# Altium schematic symbol library connectors.SchLib: 47 symbols
Pins are listed as number, name and electrical type; pins without a type are passive.

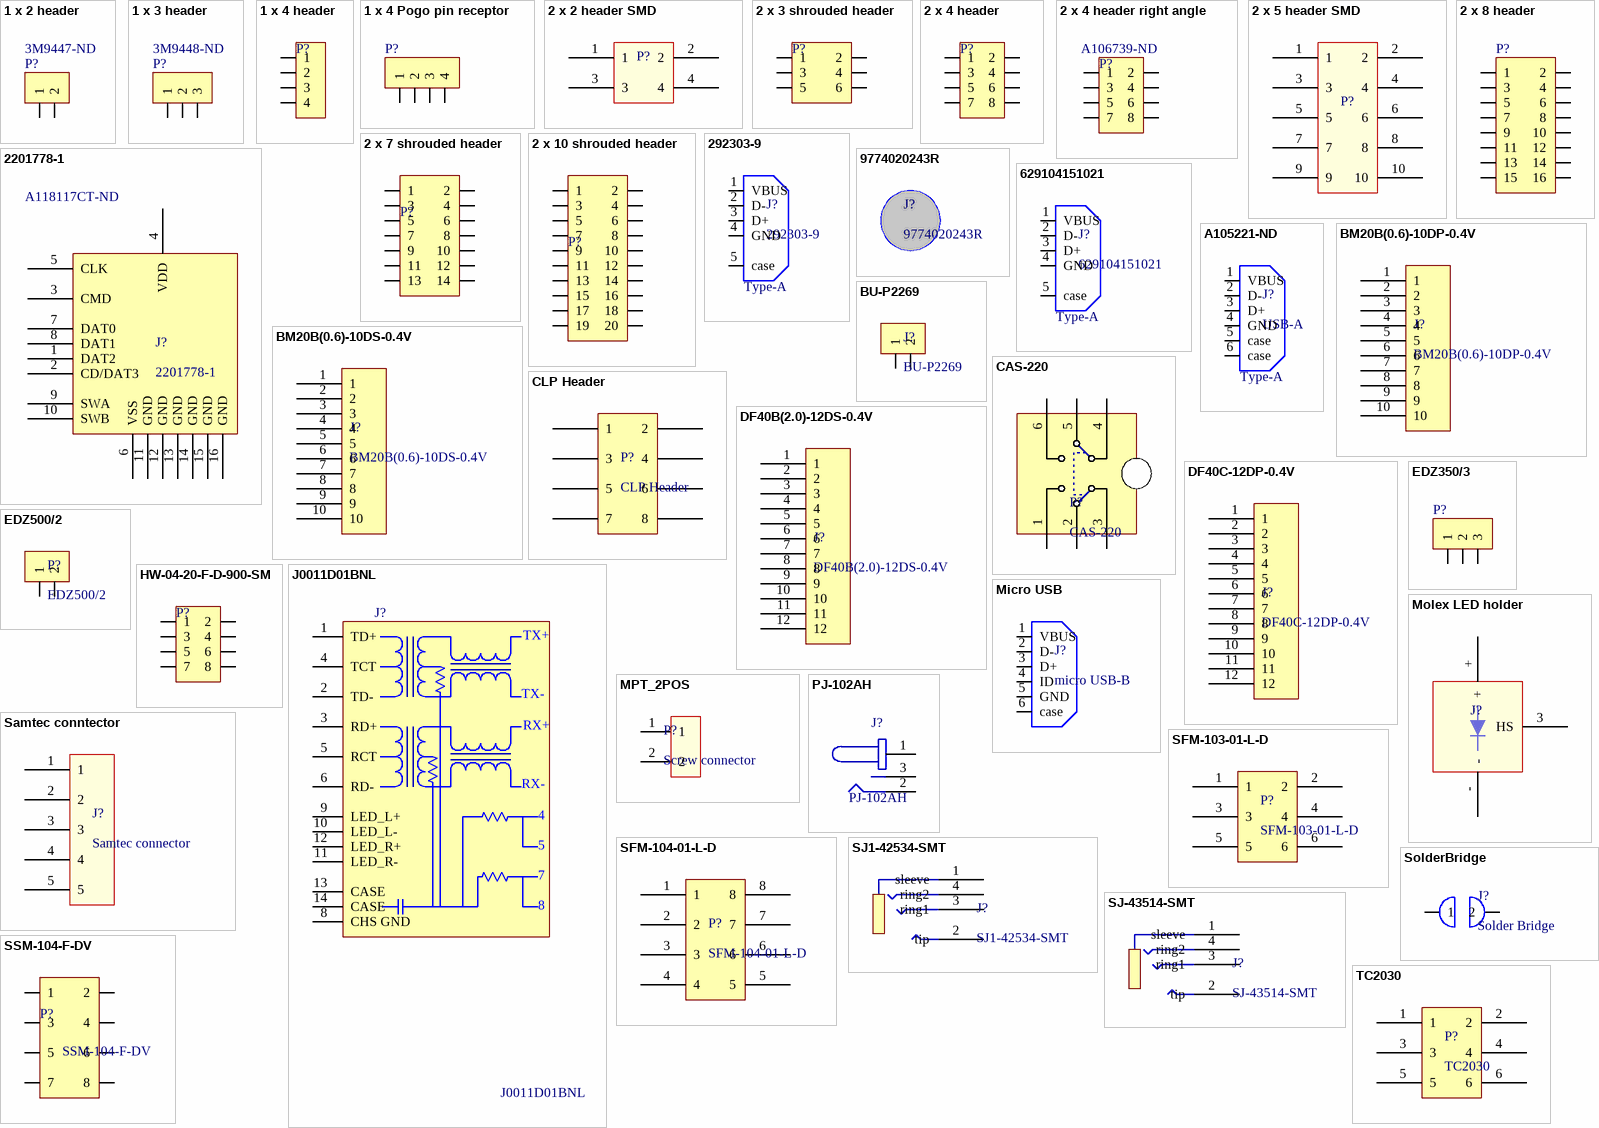
[diagram p0: symbols 1 x 2 header to TC2030]

## 1 x 2 header
designator P?  Supplier Part Number 1: 3M9447-ND  (hidden comment: 1 x 2 header)
100 mils standard header; Supplier 1: Digi-Key
footprint 1x2 header (1x2 header, 100 mils)
pins: 1, 2

## 1 x 3 header
designator P?  Supplier Part Number 1: 3M9448-ND  (hidden comment: 1 x 3 header)
100 mils standard header; Supplier 1: Digi-Key
footprint 1x3 header (1x3 header, 100 mils)
pins: 1, 2, 3

## 1 x 4 header
designator P?  (value not drawn)
100 mils standard header; Supplier 1: Digi-Key; Supplier Part Number 1: 3M9449-ND
footprint 1x4 header (x4 header, 100 mils)
pins: 1, 2, 3, 4 (power)

## 1 x 4 Pogo pin receptor
designator P?  (value not drawn)
Supplier 1: Digi-Key; Supplier Part Number 1: ED1162-ND
footprint 854-22-004-10-001101 (Spring loaded connector)
pins: 1, 2, 3, 4

## 2 x 2 header SMD
designator P?  (value not drawn)
2x2 100 mil header SMD; Supplier 1: Digi-Key; Supplier Part Number 1: 609-4463-6-ND
footprint 2x2 header SMD (100 mils header, SMD)
pins: 1, 2, 3, 4

## 2 x 3 shrouded header
designator P?, comment 2 x 3 male shrouded header  (value not drawn)
Supplier 1: Digi-Key; Supplier Part Number 1: 609-2845-ND
footprint 75869-131LF (CONN HEADER 2.54MM 6POS)
pins: 1, 2, 3, 4 (power), 5 (power), 6 (power)

## 2 x 4 header
designator P?  (value not drawn)
100 mils standard header; Supplier 1: Digi-Key; Supplier Part Number 1: 952-2122-ND
footprint 2x4 header (2x4 header, 100 mils)
pins: 1, 2, 3, 4 (power), 5 (power), 6 (power), 7 (power), 8 (power)

## 2 x 4 header right angle
designator P?  Supplier Part Number 1: A106739-ND  (hidden comment: 2 x 4 header right angle)
100 mils standard header; Supplier 1: Digi-Key
footprint 2x4 header, right angle (2x4 header, 100 mils, right angle)
pins: 1, 2, 3, 4 (power), 5 (power), 6 (power), 7 (power), 8 (power)

## 2 x 5 header SMD
designator P?  (value not drawn)
2x5 100 mil header SMD; Supplier 1: Digi-Key; Supplier Part Number 1: 609-4723-ND
footprint 2x5 header SMD (100 mils header, SMD)
pins: 1, 2, 3, 4, 5, 6, 7, 8, 9, 10

## 2 x 7 shrouded header
designator P?, comment 2 x 7 male shrouded header  (value not drawn)
Supplier 1: Digi-Key; Supplier Part Number 1: S9170-ND
footprint SBH11-PBPC-D07-ST-BK (CONN HEADER 2.54MM 14POS)
pins: 1, 2, 3, 4 (power), 5 (power), 6 (power), 7 (power), 8 (power), 9, 10, 11, 12, 13, 14

## 2 x 8 header
designator P?  (value not drawn)
100 mils standard header; Supplier 1: Digi-Key; Supplier Part Number 1: 609-3220-ND
footprint 2x8 header (2x8 header, 100 mils)
pins: 1, 2, 3, 4, 5, 6, 7, 8, 9, 10, 11, 12, 13, 14, 15, 16

## 2 x 10 shrouded header
designator P?, comment 2 x 10 male shrouded header  (value not drawn)
Supplier 1: Digi-Key; Supplier Part Number 1: S9172-ND
footprint SBH11-PBPC-D10-ST-BK (CONN HEADER 2.54MM 20POS)
pins: 1, 2, 3, 4 (power), 5 (power), 6 (power), 7 (power), 8 (power), 9, 10, 11, 12, 13, 14, 15, 16, 17, 18, 19, 20

## 292303-9
designator J?  Type: Type-A
USB 2.0 Type A; Supplier 1: Digi-Key; Supplier Part Number 1: A108853CT-ND
footprint 292303-9 (USB A, SMT)
pins: 1 VBUS (power), 2 D- (power), 3 D+ (power), 4 GND (power), 5 case (power)

## 2201778-1
designator J?  Supplier Part Number 1: A118117CT-ND
Micro SD Slot; Supplier 1: Digi-Key
footprint 2201778-1 (Micro SD Slot)
pins: 1 DAT2, 2 CD/DAT3, 3 CMD, 4 VDD, 5 CLK, 6 VSS, 7 DAT0, 8 DAT1, 9 SWA, 10 SWB, 11 GND, 12 GND, 13 GND, 14 GND, 15 GND, 16 GND

## 9774020243R
designator J?
2 mm stack height, m2 standoff; Supplier 1: Digi-Key; Supplier Part Number 1: 732-7073-1-ND
footprint 9774020243R (m2 standoff, 2mm stack height)

## 629104151021
designator J?  Type: Type-A
USB 2.0 Type A; Supplier 1: Digi-Key; Supplier Part Number 1: A108853CT-ND
footprint 629104151021 (USB A, SMT)
pins: 1 VBUS (power), 2 D- (power), 3 D+ (power), 4 GND (power), 5 case (power)

## A105221-ND
designator J?, comment USB-A  Type: Type-A
USB 2.0 Type A; Supplier 1: Digi-Key; Supplier Part Number 1: A105221-ND
footprint 292303-2 (USB 2.0 Type A, 4 position receptacle)
pins: 1 VBUS (power), 2 D- (power), 3 D+ (power), 4 GND (power), 5 case (power), 6 case (power)

## BM20B(0.6)-10DP-0.4V
designator J?
Hirose BM20 Series, 0.4mm pitch, 0.6mm stack height, 10 pos, male; Supplier 1: Digi-Key; Supplier Part Number 1: H124933CT-ND
footprint BM20B(0.6)-10DP-0.4V (Hirose BM20 Series, 0.4mm pitch, 0.6mm stack height, male)
pins: 1, 2, 3, 4, 5, 6, 7, 8, 9, 10

## BM20B(0.6)-10DS-0.4V
designator J?
Hirose BM20 Series, 0.4mm pitch, 0.6mm stack height, 10 pos, receptacle; Supplier 1: Digi-Key; Supplier Part Number 1: H124940CT-ND
footprint BM20B(0.6)-10DS-0.4V (Hirose BM20 Series, 0.4mm pitch, 0.6mm stack height, receptable)
pins: 1, 2, 3, 4, 5, 6, 7, 8, 9, 10

## BU-P2269
designator J?
Standard Banana panel mount; Supplier 1: Digi-Key; Supplier Part Number 1: 314-1204-ND
footprint BU-P2269 (Standard Banana connector)
pins: 1, 2

## CAS-220
designator P?
DPDT dip switch; Supplier 1: Digi-Key; Supplier Part Number 1: CAS220JCT-ND
footprint CAS-220A
pins: 1, 2, 3, 4, 5, 6

## CLP Header
designator P?
Samtec CLP 2x4 0.05" Female Header
footprint SAM_CLP_2_4
pins: 1, 2, 3, 4, 5, 6, 7, 8

## DF40B(2.0)-12DS-0.4V
designator J?
Hirose BM20 Series, 0.4mm pitch, 2mm stack height, 12 pos, header; Supplier 1: Digi-Key; Supplier Part Number 1: H124594CT-ND
footprint DF40B(2.0)-12DS-0.4V (Hirose DF40 Series, 0.4 mm pitch, 2.0 mm stack height, 12 positions)
pins: 1, 2, 3, 4, 5, 6, 7, 8, 9, 10, 11, 12

## DF40C-12DP-0.4V
designator J?
Hirose BM20 Series, 0.4mm pitch, 12 pos, header; Supplier 1: Digi-Key; Supplier Part Number 1: H124599CT-ND
footprint DF40C-12DP-0.4V (Hirose DF40 Series, 0.4mm pitch, 12 positions)
pins: 1, 2, 3, 4, 5, 6, 7, 8, 9, 10, 11, 12

## EDZ350/3
designator P?  (value not drawn)
200 mil, 3 pos, screw connector; Supplier 1: Digi-Key; Supplier Part Number 1: ED1644-ND
footprint EDZ350/3 (On Shore Tech. EDZ350/3 50.8 mm pitch)
pins: 1, 2, 3

## EDZ500/2
designator P?
200 mil, 2 pos, screw connector; Supplier 1: Digi-Key; Supplier Part Number 1: ED1975-ND
footprint EDZ500/2 (On Shore Tech. 200 mil, 2 pos, screw connector, blue)
pins: 1, 2

## HW-04-20-F-D-900-SM
designator P?  (value not drawn)
Samtec 2x4 100 mil connector
footprint HW-04-20-F-D-900-SM (Samtec 100 mil 2x4 header)
pins: 1, 2, 3, 4 (power), 5 (power), 6 (power), 7 (power), 8 (power)

## J0011D01BNL
designator J?
1x1 Tab-Down RJ45; Supplier 1: Digi-Key; Supplier Part Number 1: 553-1483-ND
footprint J0011D01BNL (Pulse Electronic RJ45 Jack)
pins: 1 TD+, 2 TD-, 3 RD+, 4 TCT, 5 RCT, 6 RD-, 8 CHS GND, 9 LED_L+, 10 LED_L-, 11 LED_R-, 12 LED_R+, 13 CASE, 14 CASE
text: TX+; TX-; RX+; RX-; 7

## Micro USB
designator J?, comment micro USB-B
CONN USB MICRO B RECPT SMT R/A; Supplier 1: Digi-Key; Supplier Part Number 1: 609-4616-1-ND
footprint Micro USB-B
pins: 1 VBUS (power), 2 D- (power), 3 D+ (power), 4 ID (power), 5 GND (power), 6 case (power)

## Molex LED holder
designator J?, comment 1807200002  (value not drawn)
LED Array Holders  for CREE* XLamp†   Arrays; Supplier 1: Digi-Key; Supplier Part Number 1: WM10352-ND
footprint molex (CREE LED holder)
pins: 3 HS, +, -

## MPT_2POS
designator P?, comment Screw connector
Screw connector 2 positions; Supplier 1: Digi-Key; Supplier Part Number 1: 277-1273-ND
footprint MPT_2position (Screw connector 2 pos)
pins: 1, 2

## PJ-102AH
designator J?
CONN PWR JACK 2.1X5.5MM HIGH CUR; Supplier 1: Digi-Key; Supplier Part Number 1: CP-102AH-ND
footprint PJ-102AH (Power Jack)
pins: 1, 2, 3

## Samtec conntector
designator J?, comment Samtec connector
Samtec connector, 1.27 mm, single row, 5 pos SMD; Supplier 1: Samtec
footprint SFM-105-02-L-S (Samtec TFM, single row, 5 pos)
footprint TFM-105-02-L-S (Samtec TFM, single row, 5 pos)
pins: 1, 2, 3, 4, 5

## SFM-103-01-L-D
designator P?
Samtec 50 mil, 6 pos, double row
footprint SFM-103-01-L-D (Samtec throughhole tiger eye socket, 2 row 6 pos)
pins: 1, 2, 3, 4, 5, 6

## SFM-104-01-L-D
designator P?
Samtec 50 mil, 8 pos, double row
footprint SFM-104-01-L-D (Samtec throughhole tiger eye socket, 2 row 8 pos)
pins: 1, 2, 3, 4, 5, 6, 7, 8

## SJ1-42534-SMT
designator J?
2.5 mm audio jacks; Supplier 1: Digi-Key; Supplier Part Number 1: CP1-42534SJCT-ND
footprint SJ1-4253X-SMT (2.5 mm audio jack, 4 connectors)
pins: 1 sleeve, 2 tip, 3 ring1, 4 ring2

## SJ-43514-SMT
designator J?
3.5 mm audio jacks; Supplier 1: Digi-Key; Supplier Part Number 1: CP-43514SJCT-ND
footprint SJ-43514-SMT (3.5 mm audio jack, 4 connectors)
pins: 1 sleeve, 2 tip, 3 ring1, 4 ring2

## SolderBridge
designator J?, comment Solder Bridge
footprint SolderBridge
pins: 1, 2

## SSM-104-F-DV
designator P?
Samtec 2x4 100 mil female connector
footprint SSM-104-F-DV (Samtec 100 mil 2x4 female connector)
pins: 1, 2, 3, 4 (power), 5 (power), 6 (power), 7 (power), 8 (power)

## TC2030
designator P?
TC2030-MCP-NL
footprint TC2030-IDC-NLFP
pins: 1, 2, 3, 4, 5, 6

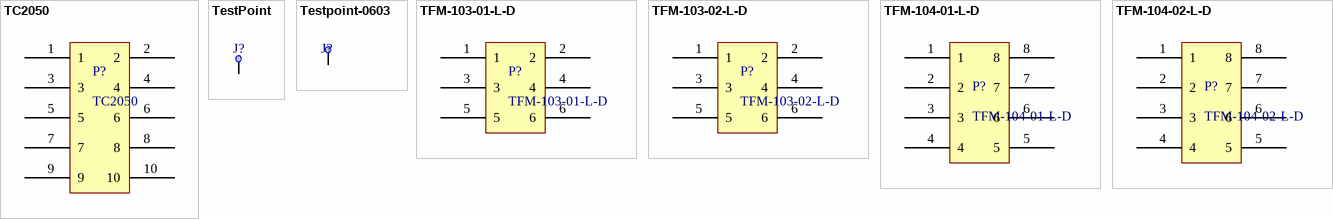
[diagram p1: symbols TC2050 to TFM-104-02-L-D]

## TC2050
designator P?
TC2050-MCP-NL
footprint TC2050-IDC-NLFP
pins: 1, 2, 3, 4, 5, 6, 7, 8, 9, 10

## TestPoint
designator J?, comment 5004  (value not drawn)
TEST POINT PC MINI .040"D YELLOW; Supplier 1: Digi-Key; Supplier Part Number 1: 5004K-ND; datasheet: http://mail.keyelco.com/ENG._DEPT/PDF%20CAT%20NO%20Drawings/5004.pdf
footprint TestPoint
pins: 1 TB

## Testpoint-0603
designator J?, comment RCU 0603 SMD Testpoint  (value not drawn)
0603 SMD Testpoint; Supplier 1: Digi-Key; Supplier Part Number 1: A106145CT-ND
footprint RCU_0603
pins: 1 TB

## TFM-103-01-L-D
designator P?
Samtec 50 mil, 6 pos, double row
footprint TFM-103-01-L-D (Samtec 50 mil through hole connector)
pins: 1, 2, 3, 4, 5, 6

## TFM-103-02-L-D
designator P?
Samtec 50 mil, 6 pos, double row
footprint TFM-103-02-L-D
pins: 1, 2, 3, 4, 5, 6

## TFM-104-01-L-D
designator P?
Samtec 50 mil, 8 pos, double row
footprint TFM-104-01-L-D (Samtec 50 mil through hole connector)
pins: 1, 2, 3, 4, 5, 6, 7, 8

## TFM-104-02-L-D
designator P?
Samtec 50 mil, 8 pos, double row
footprint TFM-104-02-L-D
pins: 1, 2, 3, 4, 5, 6, 7, 8